# EAGLE library part IR4426S (library linear)
DUAL LOW SIDE DRIVER
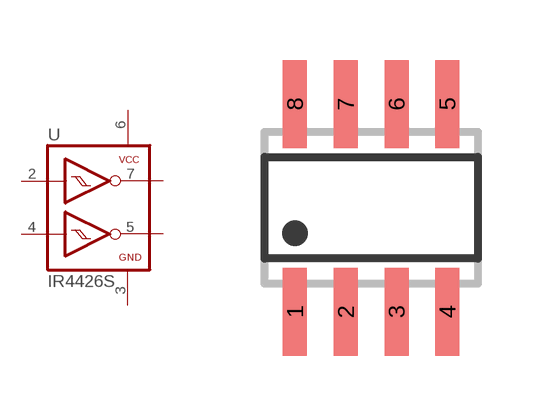
[diagram p202: symbol with the pads of SO08; footprint SO08]

Designator prefix U

## IR4426S  [SO08]
2  INA  in
3  GND  pwr
4  INB  in
5  OUTB  out
6  VCC  pwr
7  OUTA  out

## Footprint SO08 (pad centres in mm)
SMALL OUTLINE INTEGRATED CIRCUIT body 3.9 mm/JEDEC MS-012AA
smd 0.6 x 2.2: 1 -1.905,-2.6; 2 -0.635,-2.6; 3 0.635,-2.6; 4 1.905,-2.6; 5 1.905,2.6; 6 0.635,2.6; 7 -0.635,2.6; 8 -1.905,2.6